# Altium schematic symbol library AMS1117-3.3.SchLib: 1 symbol
Pins are listed as number, name and electrical type; pins without a type are passive.

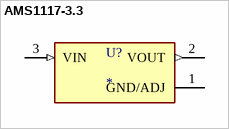
[diagram p0: symbol AMS1117-3.3]

## AMS1117-3.3
designator U?
Sot223/Pkg 1-Amp 3.3-Volt Low Drop Out Voltage Regulatator
footprint AMS1117-3.3 (Sot223/Pkg 1-Amp 3.3-Volt Low Drop Out Voltage Regulatator. SOT229P700X180-4N)
pins: 1 GND/ADJ (power), 2 VOUT (out), 3 VIN (in)